# Altium integrated library Altera MAX 3000A.IntLib: 136 symbols (part 10 of 10)
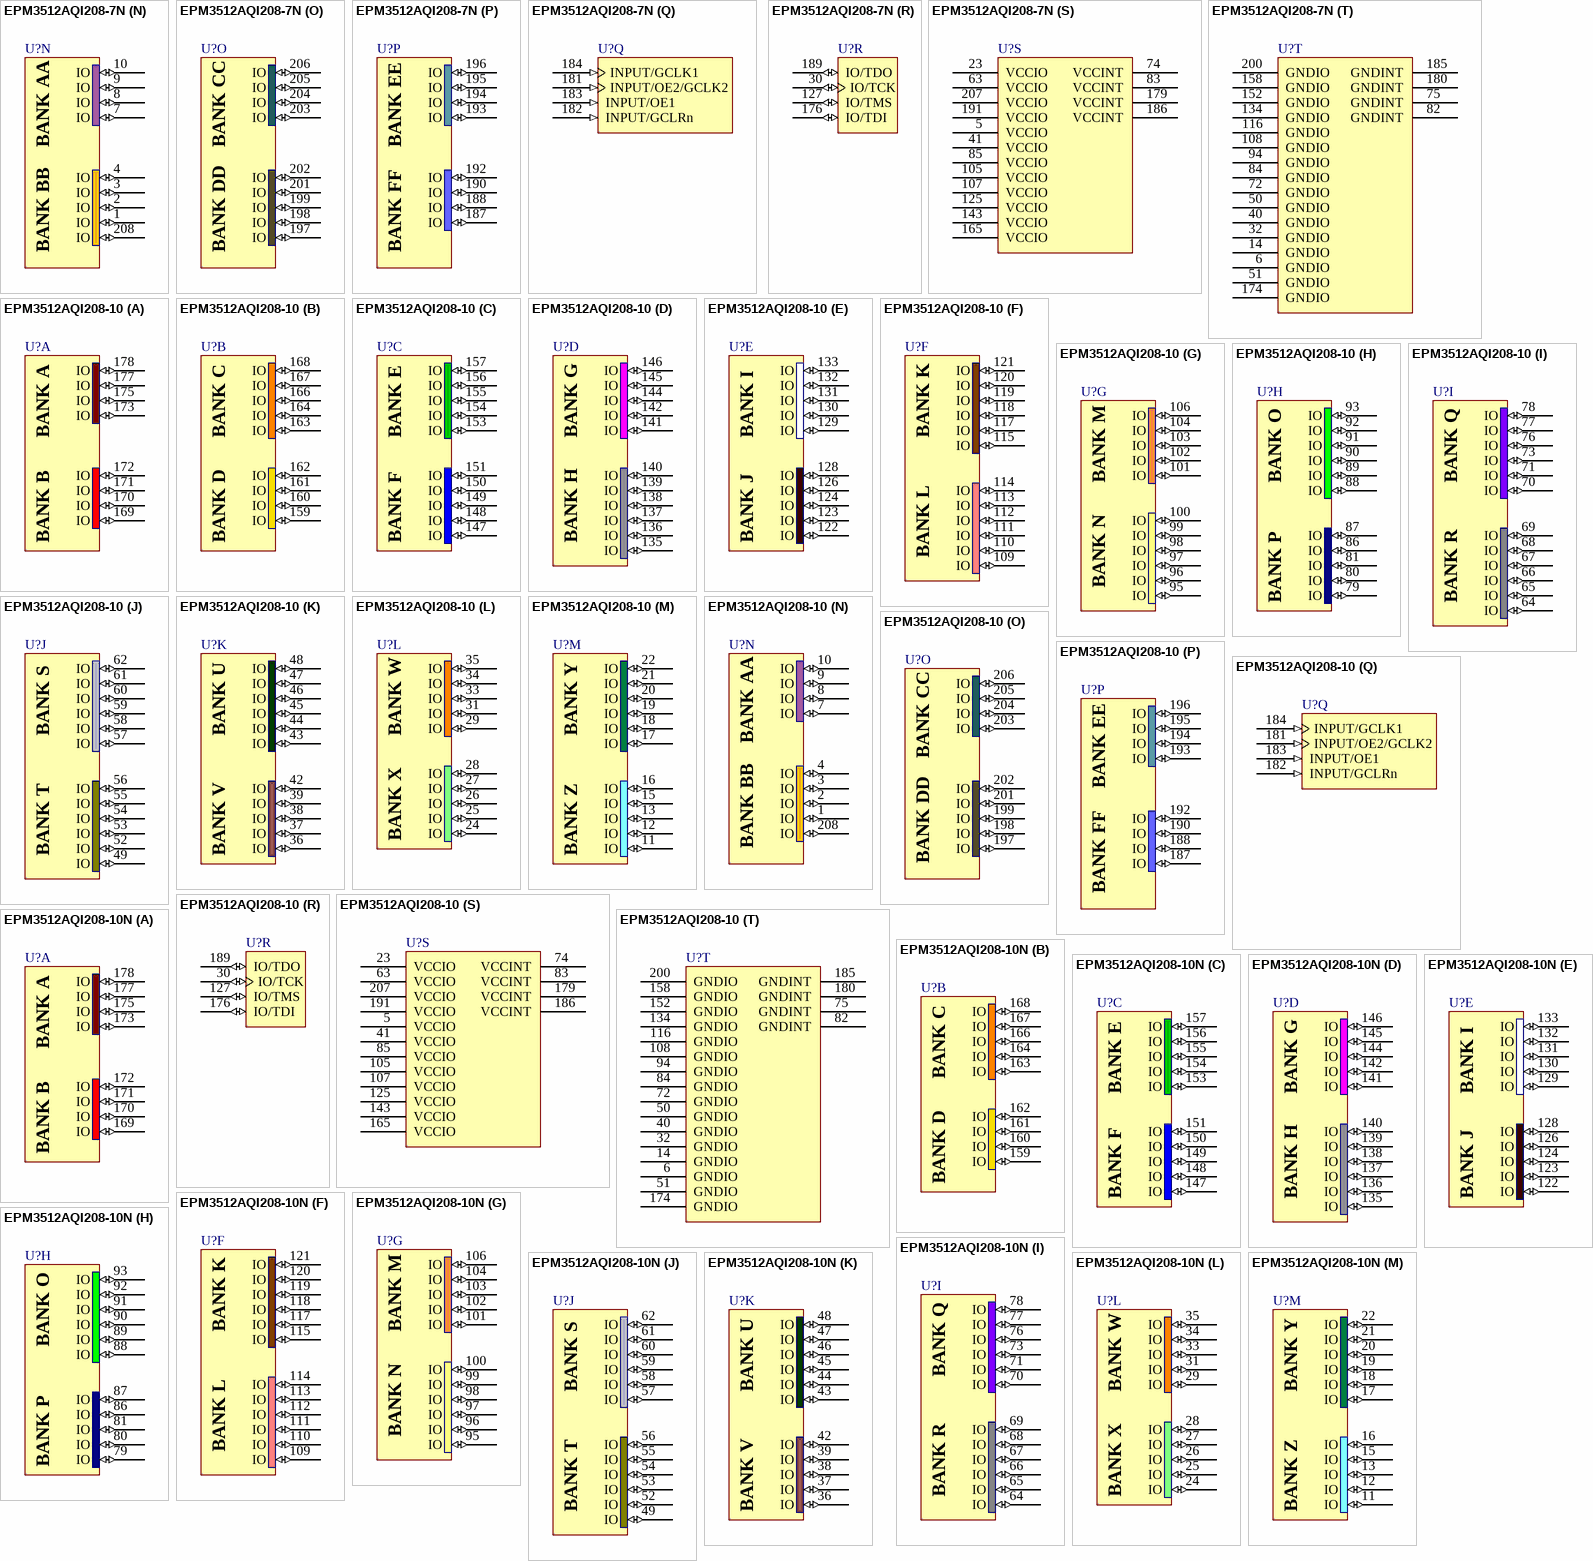
[diagram p59: symbols EPM3512AQI208-7N to EPM3512AQI208-10N]

## EPM3512AQI208-7N
designator U?
MAX 3512A 3.3V CPLD, 172 IOs, 208-Pin PQFP, Industrial Temperature, Speed Grade 7, Pb-Free; Published: 18-Aug-2005; LatestRevisionDate: 13-Apr-2006; LatestRevisionNote: IPC-7351 Footprint Added.; DatasheetVersion: ver3.5, Jun-2006; PackageVersion: ver15.4, Dec-2008; PackageReference: PQFP208; Publisher: Altium Limited; PackageDescription: 208-Pin Plastic Quad Flat Pack (PQFP208) - Wire Bond; Code_JEDEC: MS-029-FA-1; ComponentLink1Description: Manufacturer Link; ComponentLink1URL: http://www.altera.com/products/devices/max3k/m3k-index.html; ComponentLink2Description: Datasheet; ComponentLink2URL: http://www.altera.com/literature/ds/m3000a.pdf; ComponentLink3Description: Packaging Specification; ComponentLink3URL: http://www.altera.com/literature/ds/dspkg.pdf
footprint PQFP208_N (Shrink QFP, 208-Leads, Body 28x28mm, Pitch 0.5mm, IPC Medium Density)
footprint PQFP208_L (Shrink QFP, 208-Leads, Body 28x28mm, Pitch 0.5mm, IPC High Density)
footprint PQFP208_M (Shrink QFP, 208-Leads, Body 28x28mm, Pitch 0.5mm, IPC Low Density)
3D model EPM3512A-PQFP208 (208-Pin Plastic Quad Flat Pack (PQFP208) - Wire Bond)
signal-integrity model max3ka (MAX 3000A)
part A pins: 169 IO (io), 170 IO (io), 171 IO (io), 172 IO (io), 173 IO (io), 175 IO (io), 177 IO (io), 178 IO (io)
part B pins: 159 IO (io), 160 IO (io), 161 IO (io), 162 IO (io), 163 IO (io), 164 IO (io), 166 IO (io), 167 IO (io), 168 IO (io)
part C pins: 147 IO (io), 148 IO (io), 149 IO (io), 150 IO (io), 151 IO (io), 153 IO (io), 154 IO (io), 155 IO (io), 156 IO (io), 157 IO (io)
part D pins: 135 IO (io), 136 IO (io), 137 IO (io), 138 IO (io), 139 IO (io), 140 IO (io), 141 IO (io), 142 IO (io), 144 IO (io), 145 IO (io), 146 IO (io)
part E pins: 122 IO (io), 123 IO (io), 124 IO (io), 126 IO (io), 128 IO (io), 129 IO (io), 130 IO (io), 131 IO (io), 132 IO (io), 133 IO (io)
part F pins: 109 IO (io), 110 IO (io), 111 IO (io), 112 IO (io), 113 IO (io), 114 IO (io), 115 IO (io), 117 IO (io), 118 IO (io), 119 IO (io), 120 IO (io), 121 IO (io)
part G pins: 95 IO (io), 96 IO (io), 97 IO (io), 98 IO (io), 99 IO (io), 100 IO (io), 101 IO (io), 102 IO (io), 103 IO (io), 104 IO (io), 106 IO (io)
part H pins: 79 IO (io), 80 IO (io), 81 IO (io), 86 IO (io), 87 IO (io), 88 IO (io), 89 IO (io), 90 IO (io), 91 IO (io), 92 IO (io), 93 IO (io)
part I pins: 64 IO (io), 65 IO (io), 66 IO (io), 67 IO (io), 68 IO (io), 69 IO (io), 70 IO (io), 71 IO (io), 73 IO (io), 76 IO (io), 77 IO (io), 78 IO (io)
part J pins: 49 IO (io), 52 IO (io), 53 IO (io), 54 IO (io), 55 IO (io), 56 IO (io), 57 IO (io), 58 IO (io), 59 IO (io), 60 IO (io), 61 IO (io), 62 IO (io)
part K pins: 36 IO (io), 37 IO (io), 38 IO (io), 39 IO (io), 42 IO (io), 43 IO (io), 44 IO (io), 45 IO (io), 46 IO (io), 47 IO (io), 48 IO (io)
part L pins: 24 IO (io), 25 IO (io), 26 IO (io), 27 IO (io), 28 IO (io), 29 IO (io), 31 IO (io), 33 IO (io), 34 IO (io), 35 IO (io)
part M pins: 11 IO (io), 12 IO (io), 13 IO (io), 15 IO (io), 16 IO (io), 17 IO (io), 18 IO (io), 19 IO (io), 20 IO (io), 21 IO (io), 22 IO (io)
part N pins: 1 IO (io), 2 IO (io), 3 IO (io), 4 IO (io), 7 IO (io), 8 IO (io), 9 IO (io), 10 IO (io), 208 IO (io)
part O pins: 197 IO (io), 198 IO (io), 199 IO (io), 201 IO (io), 202 IO (io), 203 IO (io), 204 IO (io), 205 IO (io), 206 IO (io)
part P pins: 187 IO (io), 188 IO (io), 190 IO (io), 192 IO (io), 193 IO (io), 194 IO (io), 195 IO (io), 196 IO (io)
part Q pins: 181 INPUT/OE2/GCLK2 (in), 182 INPUT/GCLRn (in), 183 INPUT/OE1 (in), 184 INPUT/GCLK1 (in)
part R pins: 30 IO/TCK (io), 127 IO/TMS (io), 176 IO/TDI (io), 189 IO/TDO (io)
part S pins: 5 VCCIO (power), 23 VCCIO (power), 41 VCCIO (power), 63 VCCIO (power), 74 VCCINT (power), 83 VCCINT (power), 85 VCCIO (power), 105 VCCIO (power), 107 VCCIO (power), 125 VCCIO (power), 143 VCCIO (power), 165 VCCIO (power), 179 VCCINT (power), 186 VCCINT (power), 191 VCCIO (power), 207 VCCIO (power)
part T pins: 6 GNDIO (power), 14 GNDIO (power), 32 GNDIO (power), 40 GNDIO (power), 50 GNDIO (power), 51 GNDIO (power), 72 GNDIO (power), 75 GNDINT (power), 82 GNDINT (power), 84 GNDIO (power), 94 GNDIO (power), 108 GNDIO (power), 116 GNDIO (power), 134 GNDIO (power), 152 GNDIO (power), 158 GNDIO (power), 174 GNDIO (power), 180 GNDINT (power), 185 GNDINT (power), 200 GNDIO (power)
part A text: BANK A; BANK B
part B text: BANK C; BANK D
part C text: BANK E; BANK F
part D text: BANK G; BANK H
part E text: BANK I; BANK J
part F text: BANK K; BANK L
part G text: BANK M; BANK N
part H text: BANK O; BANK P
part I text: BANK Q; BANK R
part J text: BANK S; BANK T
part K text: BANK U; BANK V
part L text: BANK W; BANK X
part M text: BANK Y; BANK Z
part N text: BANK AA; BANK BB
part O text: BANK CC; BANK DD
part P text: BANK EE; BANK FF

## EPM3512AQI208-10
designator U?
MAX 3512A 3.3V CPLD, 172 IOs, 208-Pin PQFP, Industrial Temperature, Speed Grade 10; Published: 17-Sep-2003; LatestRevisionDate: 13-Apr-2006; LatestRevisionNote: IPC-7351 Footprint Added.; DatasheetVersion: ver3.5, Jun-2006; PackageVersion: ver15.4, Dec-2008; PackageReference: PQFP208; Publisher: Altium Limited; PackageDescription: 208-Pin Plastic Quad Flat Pack (PQFP208) - Wire Bond; Supplier 1: Digi-Key; Supplier Part Number 1: EPM3512AQI208-10-ND; Code_JEDEC: MS-029-FA-1; ComponentLink1Description: Manufacturer Link; ComponentLink1URL: http://www.altera.com/products/devices/max3k/m3k-index.html; ComponentLink2Description: Datasheet; ComponentLink2URL: http://www.altera.com/literature/ds/m3000a.pdf; ComponentLink3Description: Packaging Specification; ComponentLink3URL: http://www.altera.com/literature/ds/dspkg.pdf
footprint PQFP208_N (Shrink QFP, 208-Leads, Body 28x28mm, Pitch 0.5mm, IPC Medium Density)
footprint PQFP208_L (Shrink QFP, 208-Leads, Body 28x28mm, Pitch 0.5mm, IPC High Density)
footprint PQFP208_M (Shrink QFP, 208-Leads, Body 28x28mm, Pitch 0.5mm, IPC Low Density)
3D model EPM3512A-PQFP208 (208-Pin Plastic Quad Flat Pack (PQFP208) - Wire Bond)
signal-integrity model max3ka (MAX 3000A)
part A pins: 169 IO (io), 170 IO (io), 171 IO (io), 172 IO (io), 173 IO (io), 175 IO (io), 177 IO (io), 178 IO (io)
part B pins: 159 IO (io), 160 IO (io), 161 IO (io), 162 IO (io), 163 IO (io), 164 IO (io), 166 IO (io), 167 IO (io), 168 IO (io)
part C pins: 147 IO (io), 148 IO (io), 149 IO (io), 150 IO (io), 151 IO (io), 153 IO (io), 154 IO (io), 155 IO (io), 156 IO (io), 157 IO (io)
part D pins: 135 IO (io), 136 IO (io), 137 IO (io), 138 IO (io), 139 IO (io), 140 IO (io), 141 IO (io), 142 IO (io), 144 IO (io), 145 IO (io), 146 IO (io)
part E pins: 122 IO (io), 123 IO (io), 124 IO (io), 126 IO (io), 128 IO (io), 129 IO (io), 130 IO (io), 131 IO (io), 132 IO (io), 133 IO (io)
part F pins: 109 IO (io), 110 IO (io), 111 IO (io), 112 IO (io), 113 IO (io), 114 IO (io), 115 IO (io), 117 IO (io), 118 IO (io), 119 IO (io), 120 IO (io), 121 IO (io)
part G pins: 95 IO (io), 96 IO (io), 97 IO (io), 98 IO (io), 99 IO (io), 100 IO (io), 101 IO (io), 102 IO (io), 103 IO (io), 104 IO (io), 106 IO (io)
part H pins: 79 IO (io), 80 IO (io), 81 IO (io), 86 IO (io), 87 IO (io), 88 IO (io), 89 IO (io), 90 IO (io), 91 IO (io), 92 IO (io), 93 IO (io)
part I pins: 64 IO (io), 65 IO (io), 66 IO (io), 67 IO (io), 68 IO (io), 69 IO (io), 70 IO (io), 71 IO (io), 73 IO (io), 76 IO (io), 77 IO (io), 78 IO (io)
part J pins: 49 IO (io), 52 IO (io), 53 IO (io), 54 IO (io), 55 IO (io), 56 IO (io), 57 IO (io), 58 IO (io), 59 IO (io), 60 IO (io), 61 IO (io), 62 IO (io)
part K pins: 36 IO (io), 37 IO (io), 38 IO (io), 39 IO (io), 42 IO (io), 43 IO (io), 44 IO (io), 45 IO (io), 46 IO (io), 47 IO (io), 48 IO (io)
part L pins: 24 IO (io), 25 IO (io), 26 IO (io), 27 IO (io), 28 IO (io), 29 IO (io), 31 IO (io), 33 IO (io), 34 IO (io), 35 IO (io)
part M pins: 11 IO (io), 12 IO (io), 13 IO (io), 15 IO (io), 16 IO (io), 17 IO (io), 18 IO (io), 19 IO (io), 20 IO (io), 21 IO (io), 22 IO (io)
part N pins: 1 IO (io), 2 IO (io), 3 IO (io), 4 IO (io), 7 IO (io), 8 IO (io), 9 IO (io), 10 IO (io), 208 IO (io)
part O pins: 197 IO (io), 198 IO (io), 199 IO (io), 201 IO (io), 202 IO (io), 203 IO (io), 204 IO (io), 205 IO (io), 206 IO (io)
part P pins: 187 IO (io), 188 IO (io), 190 IO (io), 192 IO (io), 193 IO (io), 194 IO (io), 195 IO (io), 196 IO (io)
part Q pins: 181 INPUT/OE2/GCLK2 (in), 182 INPUT/GCLRn (in), 183 INPUT/OE1 (in), 184 INPUT/GCLK1 (in)
part R pins: 30 IO/TCK (io), 127 IO/TMS (io), 176 IO/TDI (io), 189 IO/TDO (io)
part S pins: 5 VCCIO (power), 23 VCCIO (power), 41 VCCIO (power), 63 VCCIO (power), 74 VCCINT (power), 83 VCCINT (power), 85 VCCIO (power), 105 VCCIO (power), 107 VCCIO (power), 125 VCCIO (power), 143 VCCIO (power), 165 VCCIO (power), 179 VCCINT (power), 186 VCCINT (power), 191 VCCIO (power), 207 VCCIO (power)
part T pins: 6 GNDIO (power), 14 GNDIO (power), 32 GNDIO (power), 40 GNDIO (power), 50 GNDIO (power), 51 GNDIO (power), 72 GNDIO (power), 75 GNDINT (power), 82 GNDINT (power), 84 GNDIO (power), 94 GNDIO (power), 108 GNDIO (power), 116 GNDIO (power), 134 GNDIO (power), 152 GNDIO (power), 158 GNDIO (power), 174 GNDIO (power), 180 GNDINT (power), 185 GNDINT (power), 200 GNDIO (power)
part A text: BANK A; BANK B
part B text: BANK C; BANK D
part C text: BANK E; BANK F
part D text: BANK G; BANK H
part E text: BANK I; BANK J
part F text: BANK K; BANK L
part G text: BANK M; BANK N
part H text: BANK O; BANK P
part I text: BANK Q; BANK R
part J text: BANK S; BANK T
part K text: BANK U; BANK V
part L text: BANK W; BANK X
part M text: BANK Y; BANK Z
part N text: BANK AA; BANK BB
part O text: BANK CC; BANK DD
part P text: BANK EE; BANK FF

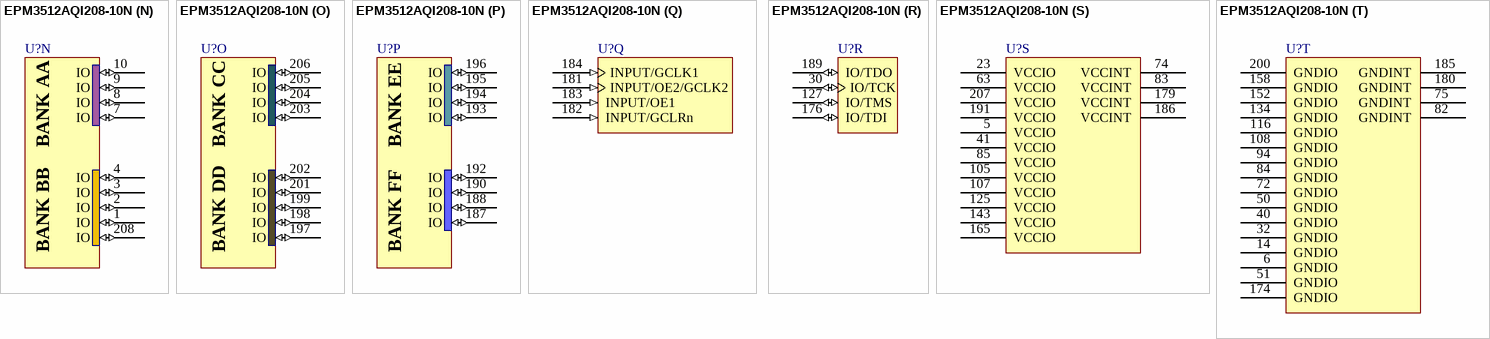
[diagram p50: symbol EPM3512AQI208-10N]

## EPM3512AQI208-10N
designator U?
MAX 3512A 3.3V CPLD, 172 IOs, 208-Pin PQFP, Industrial Temperature, Speed Grade 10, Pb-Free; Published: 18-Aug-2005; LatestRevisionDate: 13-Apr-2006; LatestRevisionNote: IPC-7351 Footprint Added.; DatasheetVersion: ver3.5, Jun-2006; PackageVersion: ver15.4, Dec-2008; PackageReference: PQFP208; Publisher: Altium Limited; PackageDescription: 208-Pin Plastic Quad Flat Pack (PQFP208) - Wire Bond; Supplier 1: Digi-Key; Supplier Part Number 1: EPM3512AQI208-10N-ND; Code_JEDEC: MS-029-FA-1; ComponentLink1Description: Manufacturer Link; ComponentLink1URL: http://www.altera.com/products/devices/max3k/m3k-index.html; ComponentLink2Description: Datasheet; ComponentLink2URL: http://www.altera.com/literature/ds/m3000a.pdf; ComponentLink3Description: Packaging Specification; ComponentLink3URL: http://www.altera.com/literature/ds/dspkg.pdf
footprint PQFP208_N (Shrink QFP, 208-Leads, Body 28x28mm, Pitch 0.5mm, IPC Medium Density)
footprint PQFP208_L (Shrink QFP, 208-Leads, Body 28x28mm, Pitch 0.5mm, IPC High Density)
footprint PQFP208_M (Shrink QFP, 208-Leads, Body 28x28mm, Pitch 0.5mm, IPC Low Density)
3D model EPM3512A-PQFP208 (208-Pin Plastic Quad Flat Pack (PQFP208) - Wire Bond)
signal-integrity model max3ka (MAX 3000A)
part A pins: 169 IO (io), 170 IO (io), 171 IO (io), 172 IO (io), 173 IO (io), 175 IO (io), 177 IO (io), 178 IO (io)
part B pins: 159 IO (io), 160 IO (io), 161 IO (io), 162 IO (io), 163 IO (io), 164 IO (io), 166 IO (io), 167 IO (io), 168 IO (io)
part C pins: 147 IO (io), 148 IO (io), 149 IO (io), 150 IO (io), 151 IO (io), 153 IO (io), 154 IO (io), 155 IO (io), 156 IO (io), 157 IO (io)
part D pins: 135 IO (io), 136 IO (io), 137 IO (io), 138 IO (io), 139 IO (io), 140 IO (io), 141 IO (io), 142 IO (io), 144 IO (io), 145 IO (io), 146 IO (io)
part E pins: 122 IO (io), 123 IO (io), 124 IO (io), 126 IO (io), 128 IO (io), 129 IO (io), 130 IO (io), 131 IO (io), 132 IO (io), 133 IO (io)
part F pins: 109 IO (io), 110 IO (io), 111 IO (io), 112 IO (io), 113 IO (io), 114 IO (io), 115 IO (io), 117 IO (io), 118 IO (io), 119 IO (io), 120 IO (io), 121 IO (io)
part G pins: 95 IO (io), 96 IO (io), 97 IO (io), 98 IO (io), 99 IO (io), 100 IO (io), 101 IO (io), 102 IO (io), 103 IO (io), 104 IO (io), 106 IO (io)
part H pins: 79 IO (io), 80 IO (io), 81 IO (io), 86 IO (io), 87 IO (io), 88 IO (io), 89 IO (io), 90 IO (io), 91 IO (io), 92 IO (io), 93 IO (io)
part I pins: 64 IO (io), 65 IO (io), 66 IO (io), 67 IO (io), 68 IO (io), 69 IO (io), 70 IO (io), 71 IO (io), 73 IO (io), 76 IO (io), 77 IO (io), 78 IO (io)
part J pins: 49 IO (io), 52 IO (io), 53 IO (io), 54 IO (io), 55 IO (io), 56 IO (io), 57 IO (io), 58 IO (io), 59 IO (io), 60 IO (io), 61 IO (io), 62 IO (io)
part K pins: 36 IO (io), 37 IO (io), 38 IO (io), 39 IO (io), 42 IO (io), 43 IO (io), 44 IO (io), 45 IO (io), 46 IO (io), 47 IO (io), 48 IO (io)
part L pins: 24 IO (io), 25 IO (io), 26 IO (io), 27 IO (io), 28 IO (io), 29 IO (io), 31 IO (io), 33 IO (io), 34 IO (io), 35 IO (io)
part M pins: 11 IO (io), 12 IO (io), 13 IO (io), 15 IO (io), 16 IO (io), 17 IO (io), 18 IO (io), 19 IO (io), 20 IO (io), 21 IO (io), 22 IO (io)
part N pins: 1 IO (io), 2 IO (io), 3 IO (io), 4 IO (io), 7 IO (io), 8 IO (io), 9 IO (io), 10 IO (io), 208 IO (io)
part O pins: 197 IO (io), 198 IO (io), 199 IO (io), 201 IO (io), 202 IO (io), 203 IO (io), 204 IO (io), 205 IO (io), 206 IO (io)
part P pins: 187 IO (io), 188 IO (io), 190 IO (io), 192 IO (io), 193 IO (io), 194 IO (io), 195 IO (io), 196 IO (io)
part Q pins: 181 INPUT/OE2/GCLK2 (in), 182 INPUT/GCLRn (in), 183 INPUT/OE1 (in), 184 INPUT/GCLK1 (in)
part R pins: 30 IO/TCK (io), 127 IO/TMS (io), 176 IO/TDI (io), 189 IO/TDO (io)
part S pins: 5 VCCIO (power), 23 VCCIO (power), 41 VCCIO (power), 63 VCCIO (power), 74 VCCINT (power), 83 VCCINT (power), 85 VCCIO (power), 105 VCCIO (power), 107 VCCIO (power), 125 VCCIO (power), 143 VCCIO (power), 165 VCCIO (power), 179 VCCINT (power), 186 VCCINT (power), 191 VCCIO (power), 207 VCCIO (power)
part T pins: 6 GNDIO (power), 14 GNDIO (power), 32 GNDIO (power), 40 GNDIO (power), 50 GNDIO (power), 51 GNDIO (power), 72 GNDIO (power), 75 GNDINT (power), 82 GNDINT (power), 84 GNDIO (power), 94 GNDIO (power), 108 GNDIO (power), 116 GNDIO (power), 134 GNDIO (power), 152 GNDIO (power), 158 GNDIO (power), 174 GNDIO (power), 180 GNDINT (power), 185 GNDINT (power), 200 GNDIO (power)
part A text: BANK A; BANK B
part B text: BANK C; BANK D
part C text: BANK E; BANK F
part D text: BANK G; BANK H
part E text: BANK I; BANK J
part F text: BANK K; BANK L
part G text: BANK M; BANK N
part H text: BANK O; BANK P
part I text: BANK Q; BANK R
part J text: BANK S; BANK T
part K text: BANK U; BANK V
part L text: BANK W; BANK X
part M text: BANK Y; BANK Z
part N text: BANK AA; BANK BB
part O text: BANK CC; BANK DD
part P text: BANK EE; BANK FF